# EAGLE library part POT_DACT (library wheat)
Stepped attenuator, DACT stereo
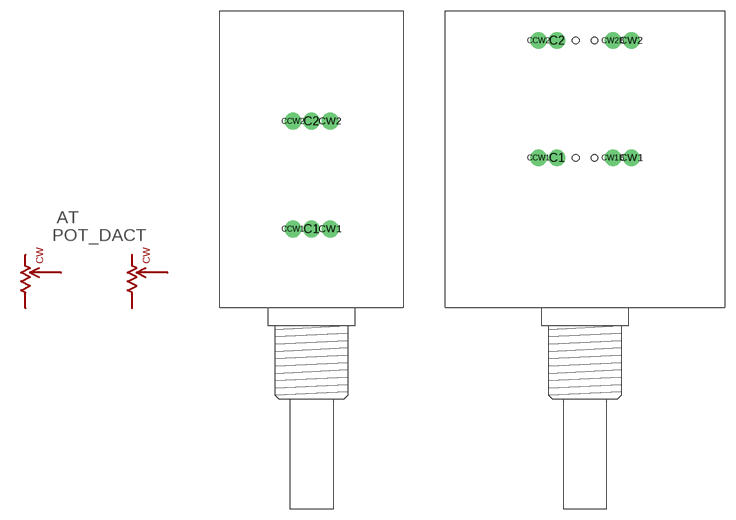
[diagram p131: symbol with the pads of DACT_STEREO; footprints DACT_STEREO, GOLDPOINT_V47]

Designator prefix AT

## POT_DACT  [DACT_STEREO]
C1  W1  pas
C2  W2  pas
CCW1  CCW1  pas
CCW2  CCW2  pas
CW1  CW1  pas
CW2  CW2  pas

## POT_DACT_V47  [GOLDPOINT_V47]
C1  W1  pas
C2  W2  pas
CCW1  CCW1  pas
CCW2  CCW2  pas
CW1  CW1  pas
CW1B  CW1  pas
CW2  CW2  pas
CW2B  CW2  pas

## Footprint DACT_STEREO (pad centres in mm)
Step att, DACT
drill 1.524: C1 0,13.208; C2 0,27.94; CCW1 -2.54,13.208; CCW2 -2.54,27.94; CW1 2.54,13.208; CW2 2.54,27.94

## Footprint GOLDPOINT_V47 (pad centres in mm)
drill 1.524: C1 -3.81,22.936; C2 -3.81,38.964; CCW1 -6.35,22.936; CCW2 -6.35,38.964; CW1 6.35,22.936; CW1B 3.81,22.936; CW2 6.35,38.964; CW2B 3.81,38.964
hole 0.9 at -1.27,38.964
hole 0.9 at 1.27,38.964
hole 0.9 at 1.27,22.936
hole 0.9 at -1.27,22.936